# EAGLE library part 74HC4052 (library BaseApp)
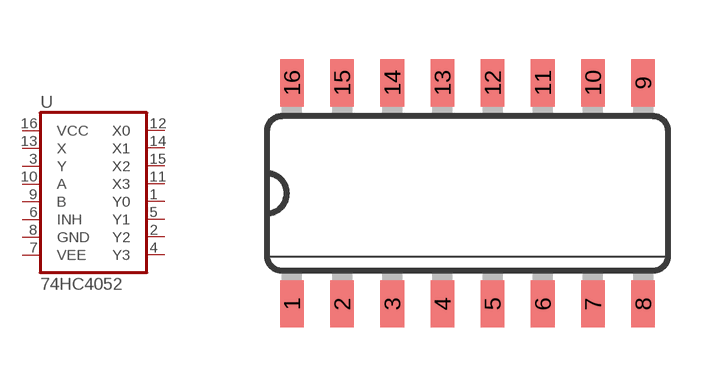
[diagram p156: symbol with the pads of SO16; footprint SO16]

Designator prefix -

## 74HC4052 (DIGIKEY: 568-10115-1-ND; PRICE_PER_UNIT: 0.51)  [SO16]
1  Y0
2  Y2
3  Y
4  Y3
5  Y1
6  INH  in
7  VEE  pwr
8  GND  pwr
9  B  in
10  A  in
11  X3
12  X0
13  X
14  X1
15  X2
16  VCC  pwr

## Footprint SO16 (pad centres in mm)
smd 0.6 x 1.2: 1 -4.445,-2.8; 2 -3.175,-2.8; 3 -1.905,-2.8; 4 -0.635,-2.8; 5 0.635,-2.8; 6 1.905,-2.8; 7 3.175,-2.8; 8 4.445,-2.8; 9 4.445,2.8; 10 3.175,2.8; 11 1.905,2.8; 12 0.635,2.8; 13 -0.635,2.8; 14 -1.905,2.8; 15 -3.175,2.8; 16 -4.445,2.8